# Altium integrated library Altium_Ferrite_Bead.IntLib: 47 symbols
Pins are listed as number, name and electrical type; pins without a type are passive.

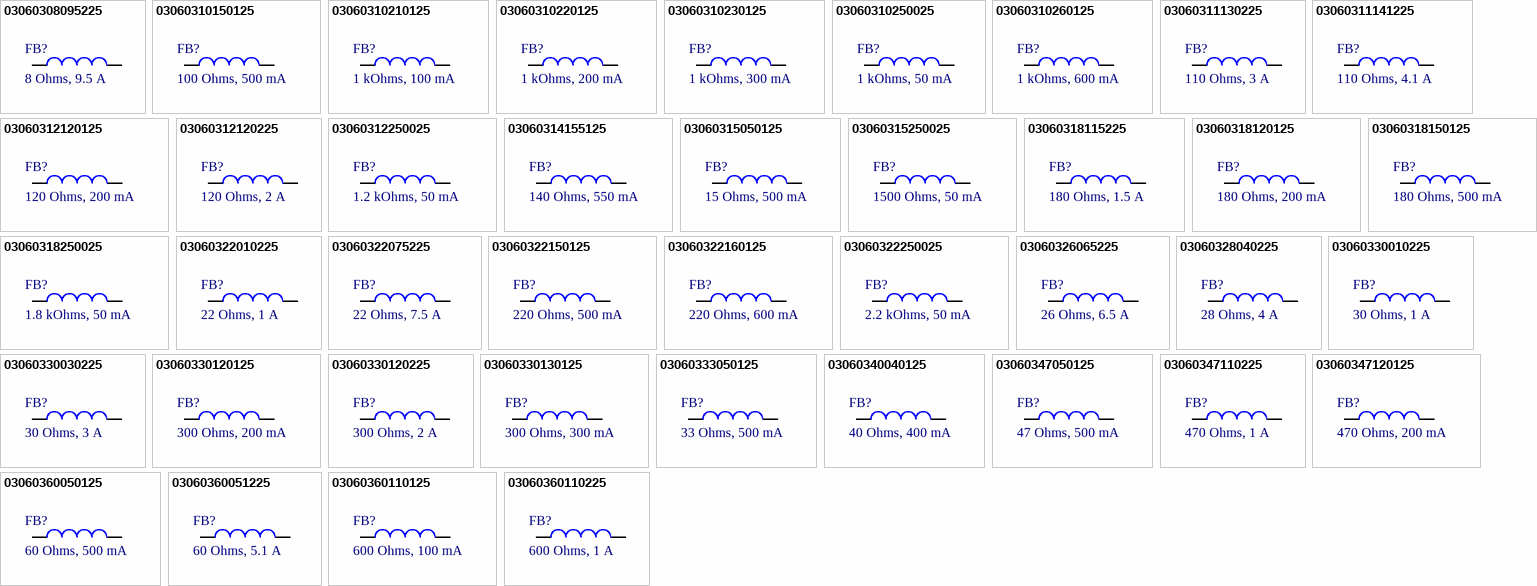
[diagram p0: symbols 03060308095225 to 03060360110225]

## 03060308095225
designator FB?, comment 8 Ohms, 9.5 A
Ferrite, 0603, 8 Ohms, 9.5 A; Manufacturer: Wurth Elektronik; Manufacturer Part Number: 7427922808; Tolerance: +/-25%; Impedance: 8 Ohms; Maximum DC Current: 9.5 A; Maximum DC Resistance: 5 mOhms; Test Frequency: 100 MHz; Packaging: Tape and Reel; Supplier 1 URL: https://www.mouser.com/ProductDetail/Wurth-Elektronik/7427922808?qs=sGAEpiMZZMt1hubY80%2Fs8OaNS%2FJrXGrqNZPZoRKP4ePJAs8SLRl7MQ%3D%3D&utm_source=mouser-refine-download&utm_medium=file&utm_campaign=7427922808&utm_content=Wurth-Elektronik; Supplier 2 URL: N/A; Supplier 3 URL: N/A; Value: 8 Ohms, 9.5 A; ComponentLink1Description: Datasheet; ComponentLink1URL: https://www.we-online.com/catalog/datasheet/7427922808.pdf; Mount: SMD/SMT; Operating Temperature Max: 105°C; Operating Temperature Min: -55°C; Supplier 1: Mouser; Supplier 1 Part Number: 710-7427922808; Supplier 2: Digi-Key; Supplier 2 Part Number: N/A; Supplier 3: thegioiic; Supplier 3 Part Number: N/A; Package / Case: 0603
footprint FER_0603
pins: 1, 2

## 03060310150125
designator FB?, comment 100 Ohms, 500 mA
Ferrite, 0603, 100 Ohms, 500 mA; Manufacturer: Wurth Elektronik; Manufacturer Part Number: 742792620; Tolerance: +/-25%; Maximum DC Current: 500 mA; Maximum DC Resistance: 150 mOhms; Test Frequency: 100 MHz; Packaging: Tape and Reel; Supplier 1 URL: https://www.mouser.com/ProductDetail/Wurth-Elektronik/742792620?qs=sGAEpiMZZMt1hubY80%2Fs8M60rIzA20dgdJ5GOdyN9hc%3D&utm_source=mouser-refine-download&utm_medium=file&utm_campaign=742792620&utm_content=Wurth-Elektronik; Supplier 2 URL: N/A; Supplier 3 URL: N/A; Impedance: 100 Ohms; Value: 100 Ohms, 500 mA; LCSC Part #: C87554; ComponentLink1Description: Datasheet; ComponentLink1URL: https://www.we-online.com/catalog/datasheet/742792620.pdf; Mount: SMD/SMT; Operating Temperature Max: 105°C; Operating Temperature Min: -55°C; Supplier 1: Mouser; Supplier 1 Part Number: 710-742792620; Supplier 2: Digi-Key; Supplier 2 Part Number: N/A; Supplier 3: thegioiic; Supplier 3 Part Number: N/A; Package / Case: 0603
footprint FER_0603
pins: 1, 2

## 03060310210125
designator FB?, comment 1 kOhms, 100 mA
Ferrite, 0603, 1 kOhms, 100 mA; Manufacturer: Wurth Elektronik; Manufacturer Part Number: 742792663; Tolerance: +/-25%; Impedance: 1 kOhms; Maximum DC Current: 100 mA; Maximum DC Resistance: 850 mOhms; Test Frequency: 100 MHz; Packaging: Tape and Reel; Supplier 1 URL: https://www.mouser.com/ProductDetail/Wurth-Elektronik/742792663?qs=sGAEpiMZZMt1hubY80%2Fs8M60rIzA20dgMgzP5rVG4XE%3D&utm_source=mouser-refine-download&utm_medium=file&utm_campaign=742792663&utm_content=Wurth-Elektronik; Supplier 2 URL: N/A; Supplier 3 URL: N/A; Value: 1 kOhms, 100 mA; ComponentLink1Description: Datasheet; ComponentLink1URL: https://www.we-online.com/catalog/datasheet/742792663.pdf; Mount: SMD/SMT; Operating Temperature Max: 105°C; Operating Temperature Min: -55°C; Supplier 1: Mouser; Supplier 1 Part Number: 710-742792663; Supplier 2: Digi-Key; Supplier 2 Part Number: N/A; Supplier 3: thegioiic; Supplier 3 Part Number: N/A; Package / Case: 0603
footprint FER_0603
pins: 1, 2

## 03060310220125
designator FB?, comment 1 kOhms, 200 mA
Ferrite, 0603, 1 kOhms, 200 mA; Manufacturer: Wurth Elektronik; Manufacturer Part Number: 74279266; Tolerance: +/-25%; Impedance: 1 kOhms; Maximum DC Current: 200 mA; Maximum DC Resistance: 600 mOhms; Test Frequency: 100 MHz; Packaging: Tape and Reel; Supplier 1 URL: https://www.mouser.com/ProductDetail/Wurth-Elektronik/74279266?qs=sGAEpiMZZMt1hubY80%2Fs8Fu4ZKI1n7gkrJxgnQpvhF0%3D&utm_source=mouser-refine-download&utm_medium=file&utm_campaign=74279266&utm_content=Wurth-Elektronik; Supplier 2 URL: N/A; Supplier 3 URL: N/A; Value: 1 kOhms, 200 mA; ComponentLink1Description: Datasheet; ComponentLink1URL: https://www.we-online.com/catalog/datasheet/74279266.pdf; Mount: SMD/SMT; Operating Temperature Max: 105°C; Operating Temperature Min: -55°C; Supplier 1: Mouser; Supplier 1 Part Number: 710-74279266; Supplier 2: Digi-Key; Supplier 2 Part Number: N/A; Supplier 3: thegioiic; Supplier 3 Part Number: N/A; Package / Case: 0603
footprint FER_0603
pins: 1, 2

## 03060310230125
designator FB?, comment 1 kOhms, 300 mA
Ferrite, 0603, 1 kOhms, 300 mA; Manufacturer: Wurth Elektronik; Manufacturer Part Number: 742792664; Tolerance: +/-25%; Impedance: 1 kOhms; Maximum DC Current: 300 mA; Maximum DC Resistance: 600 mOhms; Test Frequency: 100 MHz; Packaging: Tape and Reel; Supplier 1 URL: https://www.mouser.com/ProductDetail/Wurth-Elektronik/742792664?qs=sGAEpiMZZMt1hubY80%2Fs8M60rIzA20dg4m5XlO5XQ6U%3D&utm_source=mouser-refine-download&utm_medium=file&utm_campaign=742792664&utm_content=Wurth-Elektronik; Supplier 2 URL: N/A; Supplier 3 URL: N/A; Value: 1 kOhms, 300 mA; ComponentLink1Description: Datasheet; ComponentLink1URL: https://www.we-online.com/catalog/datasheet/742792664.pdf; Mount: SMD/SMT; Operating Temperature Max: 105°C; Operating Temperature Min: -55°C; Supplier 1: Mouser; Supplier 1 Part Number: 710-742792664; Supplier 2: Digi-Key; Supplier 2 Part Number: N/A; Supplier 3: thegioiic; Supplier 3 Part Number: N/A; Package / Case: 0603
footprint FER_0603
pins: 1, 2

## 03060310250025
designator FB?, comment 1 kOhms, 50 mA
Ferrite, 0603, 1 kOhms, 50 mA; Manufacturer: Wurth Elektronik; Manufacturer Part Number: 742861210; Tolerance: +/-25%; Impedance: 1 kOhms; Maximum DC Current: 50 mA; Maximum DC Resistance: 1.8 Ohms; Test Frequency: 100 MHz; Packaging: Tape and Reel; Supplier 1 URL: https://www.mouser.com/ProductDetail/Wurth-Elektronik/742861210?qs=sGAEpiMZZMt1hubY80%2Fs8BKXygOvoDpxiy%252BZQOEKy1o%3D&utm_source=mouser-refine-download&utm_medium=file&utm_campaign=742861210&utm_content=Wurth-Elektronik; Supplier 2 URL: N/A; Supplier 3 URL: N/A; Value: 1 kOhms, 50 mA; ComponentLink1Description: Datasheet; ComponentLink1URL: https://www.we-online.com/catalog/datasheet/742861210.pdf; Mount: SMD/SMT; Operating Temperature Max: 105°C; Operating Temperature Min: -55°C; Supplier 1: Mouser; Supplier 1 Part Number: 710-742861210; Supplier 2: Digi-Key; Supplier 2 Part Number: N/A; Supplier 3: thegioiic; Supplier 3 Part Number: N/A; Package / Case: 0603
footprint FER_0603
pins: 1, 2

## 03060310260125
designator FB?, comment 1 kOhms, 600 mA
Ferrite, 0603, 1 kOhms, 600 mA; Manufacturer: Wurth Elektronik; Manufacturer Part Number: 742792662; Tolerance: +/-25%; Impedance: 1 kOhms; Maximum DC Current: 600 mA; Maximum DC Resistance: 300 mOhms; Test Frequency: 100 MHz; Packaging: Tape and Reel; Supplier 1 URL: https://www.mouser.com/ProductDetail/Wurth-Elektronik/742792662?qs=sGAEpiMZZMt1hubY80%2Fs8OCciRuv%2FFk6rou4i%2FuY0ZJBn7fgNBrBWA%3D%3D&utm_source=mouser-refine-download&utm_medium=file&utm_campaign=742792662&utm_content=Wurth-Elektronik; Supplier 2 URL: N/A; Supplier 3 URL: N/A; Value: 1 kOhms, 600 mA; ComponentLink1Description: Datasheet; ComponentLink1URL: https://www.we-online.com/catalog/datasheet/742792662.pdf; Mount: SMD/SMT; Operating Temperature Max: 105°C; Operating Temperature Min: -55°C; Supplier 1: Mouser; Supplier 1 Part Number: 710-742792662; Supplier 2: Digi-Key; Supplier 2 Part Number: N/A; Supplier 3: thegioiic; Supplier 3 Part Number: N/A; Package / Case: 0603
footprint FER_0603
pins: 1, 2

## 03060311130225
designator FB?, comment 110 Ohms, 3 A
Ferrite, 0603, 110 Ohms, 3 A; Manufacturer: Wurth Elektronik; Manufacturer Part Number: 742792602; Tolerance: +/-25%; Maximum DC Current: 3 A; Maximum DC Resistance: 40 mOhms; Test Frequency: 100 MHz; Packaging: Tape and Reel; Supplier 1 URL: https://www.mouser.com/ProductDetail/Wurth-Elektronik/742792602?qs=sGAEpiMZZMt1hubY80%2Fs8OCciRuv%2FFk648it6jghTQEon3x0ZoNI1Q%3D%3D&utm_source=mouser-refine-download&utm_medium=file&utm_campaign=742792602&utm_content=Wurth-Elektronik; Supplier 2 URL: N/A; Supplier 3 URL: N/A; Impedance: 110 Ohms; Value: 110 Ohms, 3 A; ComponentLink1Description: Datasheet; ComponentLink1URL: https://www.we-online.com/catalog/datasheet/742792602.pdf; Mount: SMD/SMT; Operating Temperature Max: 105°C; Operating Temperature Min: -55°C; Supplier 1: Mouser; Supplier 1 Part Number: 710-742792602; Supplier 2: Digi-Key; Supplier 2 Part Number: N/A; Supplier 3: thegioiic; Supplier 3 Part Number: N/A; Package / Case: 0603
footprint FER_0603
pins: 1, 2

## 03060311141225
designator FB?, comment 110 Ohms, 4.1 A
Ferrite, 0603, 110 Ohms, 4.1 A; Manufacturer: Wurth Elektronik; Manufacturer Part Number: 74279228111; Tolerance: +/-25%; Maximum DC Current: 4.1 A; Maximum DC Resistance: 20 mOhms; Test Frequency: 100 MHz; Packaging: Tape and Reel; Supplier 1 URL: https://www.mouser.com/ProductDetail/Wurth-Elektronik/74279228111?qs=sGAEpiMZZMt1hubY80%2Fs8OaNS%2FJrXGrqoad218ziyVJ2s6IK3enLpg%3D%3D&utm_source=mouser-refine-download&utm_medium=file&utm_campaign=74279228111&utm_content=Wurth-Elektronik; Supplier 2 URL: N/A; Supplier 3 URL: N/A; Impedance: 110 Ohms; Value: 110 Ohms, 4.1 A; ComponentLink1Description: Datasheet; ComponentLink1URL: https://www.we-online.com/catalog/datasheet/74279228111.pdf; Mount: SMD/SMT; Operating Temperature Max: 105°C; Operating Temperature Min: -55°C; Supplier 1: Mouser; Supplier 1 Part Number: 710-74279228111; Supplier 2: Digi-Key; Supplier 2 Part Number: N/A; Supplier 3: thegioiic; Supplier 3 Part Number: N/A; Package / Case: 0603
footprint FER_0603
pins: 1, 2

## 03060312120125
designator FB?, comment 120 Ohms, 200 mA
Ferrite, 0603, 120 Ohms, 200 mA; Manufacturer: Wurth Elektronik; Manufacturer Part Number: 742792606; Tolerance: +/-25%; Maximum DC Current: 200 mA; Maximum DC Resistance: 350 mOhms; Test Frequency: 100 MHz; Packaging: Tape and Reel; Supplier 1 URL: https://www.mouser.com/ProductDetail/Wurth-Elektronik/742792606?qs=sGAEpiMZZMt1hubY80%2Fs8OCciRuv%2FFk6RUmLw%2FAQeyOdy2qzGx3rqg%3D%3D&utm_source=mouser-refine-download&utm_medium=file&utm_campaign=742792606&utm_content=Wurth-Elektronik; Supplier 2 URL: N/A; Supplier 3 URL: N/A; Impedance: 120 Ohms; Value: 120 Ohms, 200 mA; ComponentLink1Description: Datasheet; ComponentLink1URL: https://www.we-online.com/catalog/datasheet/742792606.pdf; Mount: SMD/SMT; Operating Temperature Max: 105°C; Operating Temperature Min: -55°C; Supplier 1: Mouser; Supplier 1 Part Number: 710-742792606; Supplier 2: Digi-Key; Supplier 2 Part Number: N/A; Supplier 3: thegioiic; Supplier 3 Part Number: N/A; Package / Case: 0603
footprint FER_0603
pins: 1, 2

## 03060312120225
designator FB?, comment 120 Ohms, 2 A
Ferrite, 0603, 120 Ohms, 2 A; Manufacturer: Wurth Elektronik; Manufacturer Part Number: 742792625; Tolerance: +/-25%; Maximum DC Current: 2 A; Maximum DC Resistance: 50 mOhms; Test Frequency: 100 MHz; Packaging: Tape and Reel; Supplier 1 URL: https://www.mouser.com/ProductDetail/Wurth-Elektronik/742792625?qs=sGAEpiMZZMt1hubY80%2Fs8OCciRuv%2FFk6PJE4za4cFPDWegNO%252Bf6fVw%3D%3D&utm_source=mouser-refine-download&utm_medium=file&utm_campaign=742792625&utm_content=Wurth-Elektronik; Supplier 2 URL: N/A; Supplier 3 URL: N/A; Impedance: 120 Ohms; Value: 120 Ohms, 2 A; LCSC Part #: C14709; ComponentLink1Description: Datasheet; ComponentLink1URL: https://www.we-online.com/catalog/datasheet/742792625.pdf; Mount: SMD/SMT; Operating Temperature Max: 105°C; Operating Temperature Min: -55°C; Supplier 1: Mouser; Supplier 1 Part Number: 710-742792625; Supplier 2: Digi-Key; Supplier 2 Part Number: N/A; Supplier 3: thegioiic; Supplier 3 Part Number: N/A; Package / Case: 0603
footprint FER_0603
pins: 1, 2

## 03060312250025
designator FB?, comment 1.2 kOhms, 50 mA
Ferrite, 0603, 1.2 kOhms, 50 mA; Manufacturer: Wurth Elektronik; Manufacturer Part Number: 74279269; Tolerance: +/-25%; Maximum DC Current: 50 mA; Maximum DC Resistance: 700 mOhms; Test Frequency: 100 MHz; Packaging: Tape and Reel; Supplier 1 URL: https://www.mouser.com/ProductDetail/Wurth-Elektronik/74279269?qs=sGAEpiMZZMt1hubY80%2Fs8P3D3qB7FPPAEUmn8iBB1ho%3D&utm_source=mouser-refine-download&utm_medium=file&utm_campaign=74279269&utm_content=Wurth-Elektronik; Supplier 2 URL: N/A; Supplier 3 URL: N/A; Impedance: 1.2 kOhms; Value: 1.2 kOhms, 50 mA; ComponentLink1Description: Datasheet; ComponentLink1URL: https://www.we-online.com/catalog/datasheet/74279269.pdf; Mount: SMD/SMT; Operating Temperature Max: 105°C; Operating Temperature Min: -55°C; Supplier 1: Mouser; Supplier 1 Part Number: 710-74279269; Supplier 2: Digi-Key; Supplier 2 Part Number: N/A; Supplier 3: thegioiic; Supplier 3 Part Number: N/A; Package / Case: 0603
footprint FER_0603
pins: 1, 2

## 03060314155125
designator FB?, comment 140 Ohms, 550 mA
Ferrite, 0603, 140 Ohms, 550 mA; Manufacturer: Wurth Elektronik; Manufacturer Part Number: 742792621; Tolerance: +/-25%; Maximum DC Current: 550 mA; Maximum DC Resistance: 200 mOhms; Test Frequency: 100 MHz; Packaging: Tape and Reel; Supplier 1 URL: https://www.mouser.com/ProductDetail/Wurth-Elektronik/742792621?qs=sGAEpiMZZMt1hubY80%2Fs8KwN0d0An6L42v8I79KmX0rIPXAADlEo3A%3D%3D&utm_source=mouser-refine-download&utm_medium=file&utm_campaign=742792621&utm_content=Wurth-Elektronik; Supplier 2 URL: N/A; Supplier 3 URL: N/A; Impedance: 140 Ohms; Value: 140 Ohms, 550 mA; ComponentLink1Description: Datasheet; ComponentLink1URL: https://www.we-online.com/catalog/datasheet/742792621.pdf; Mount: SMD/SMT; Operating Temperature Max: 105°C; Operating Temperature Min: -55°C; Supplier 1: Mouser; Supplier 1 Part Number: 710-742792621; Supplier 2: Digi-Key; Supplier 2 Part Number: N/A; Supplier 3: thegioiic; Supplier 3 Part Number: N/A; Package / Case: 0603
footprint FER_0603
pins: 1, 2

## 03060315050125
designator FB?, comment 15 Ohms, 500 mA
Ferrite, 0603, 15 Ohms, 500 mA; Manufacturer: Wurth Elektronik; Manufacturer Part Number: 74279268; Tolerance: +/-25%; Impedance: 15 Ohms; Maximum DC Current: 500 mA; Maximum DC Resistance: 100 mOhms; Test Frequency: 100 MHz; Packaging: Tape and Reel; Supplier 1 URL: https://www.mouser.com/ProductDetail/Wurth-Elektronik/74279268?qs=sGAEpiMZZMt1hubY80%2Fs8M60rIzA20dg6AqiZmQw0jA%3D&utm_source=mouser-refine-download&utm_medium=file&utm_campaign=74279268&utm_content=Wurth-Elektronik; Supplier 2 URL: N/A; Supplier 3 URL: N/A; Value: 15 Ohms, 500 mA; ComponentLink1Description: Datasheet; ComponentLink1URL: https://www.we-online.com/catalog/datasheet/74279268.pdf; Mount: SMD/SMT; Operating Temperature Max: 105°C; Operating Temperature Min: -55°C; Supplier 1: Mouser; Supplier 1 Part Number: 710-74279268; Supplier 2: Digi-Key; Supplier 2 Part Number: N/A; Supplier 3: thegioiic; Supplier 3 Part Number: N/A; Package / Case: 0603
footprint FER_0603
pins: 1, 2

## 03060315250025
designator FB?, comment 1500 Ohms, 50 mA
Ferrite, 0603, 1500 Ohms, 50 mA; Manufacturer: Wurth Elektronik; Manufacturer Part Number: 742792691; Tolerance: +/-25%; Maximum DC Current: 50 mA; Maximum DC Resistance: 700 mOhms; Test Frequency: 100 MHz; Packaging: Tape and Reel; Supplier 1 URL: https://www.mouser.com/ProductDetail/Wurth-Elektronik/742792691?qs=sGAEpiMZZMt1hubY80%2Fs8M60rIzA20dgxC2eyht%252BmJY%3D&utm_source=mouser-refine-download&utm_medium=file&utm_campaign=742792691&utm_content=Wurth-Elektronik; Supplier 2 URL: N/A; Supplier 3 URL: N/A; Impedance: 1500 Ohms; Value: 1500 Ohms, 50 mA; ComponentLink1Description: Datasheet; ComponentLink1URL: https://www.we-online.com/catalog/datasheet/742792691.pdf; Mount: SMD/SMT; Operating Temperature Max: 105°C; Operating Temperature Min: -55°C; Supplier 1: Mouser; Supplier 1 Part Number: 710-742792691; Supplier 2: Digi-Key; Supplier 2 Part Number: N/A; Supplier 3: thegioiic; Supplier 3 Part Number: N/A; Package / Case: 0603
footprint FER_0603
pins: 1, 2

## 03060318115225
designator FB?, comment 180 Ohms, 1.5 A
Ferrite, 0603, 180 Ohms, 1.5 A; Manufacturer: Wurth Elektronik; Manufacturer Part Number: 742792624; Tolerance: +/-25%; Maximum DC Current: 1.5 A; Maximum DC Resistance: 90 mOhms; Test Frequency: 100 MHz; Packaging: Tape and Reel; Supplier 1 URL: https://www.mouser.com/ProductDetail/Wurth-Elektronik/742792624?qs=sGAEpiMZZMt1hubY80%2Fs8KW3xyk14bZ%252BQN9sGzj%2FyVY%3D&utm_source=mouser-refine-download&utm_medium=file&utm_campaign=742792624&utm_content=Wurth-Elektronik; Supplier 2 URL: N/A; Supplier 3 URL: N/A; Impedance: 180 Ohms; Value: 180 Ohms, 1.5 A; ComponentLink1Description: Datasheet; ComponentLink1URL: https://www.we-online.com/catalog/datasheet/742792624.pdf; Mount: SMD/SMT; Operating Temperature Max: 105°C; Operating Temperature Min: -55°C; Supplier 1: Mouser; Supplier 1 Part Number: 710-742792624; Supplier 2: Digi-Key; Supplier 2 Part Number: N/A; Supplier 3: thegioiic; Supplier 3 Part Number: N/A; Package / Case: 0603
footprint FER_0603
pins: 1, 2

## 03060318120125
designator FB?, comment 180 Ohms, 200 mA
Ferrite, 0603, 180 Ohms, 200 mA; Manufacturer: Wurth Elektronik; Manufacturer Part Number: 742861118; Tolerance: +/-25%; Maximum DC Current: 200 mA; Maximum DC Resistance: 550 mOhms; Test Frequency: 100 MHz; Packaging: Tape and Reel; Supplier 1 URL: https://www.mouser.com/ProductDetail/Wurth-Elektronik/742861118?qs=sGAEpiMZZMt1hubY80%2Fs8BKXygOvoDpxw0owDBNz%252BZQ%3D&utm_source=mouser-refine-download&utm_medium=file&utm_campaign=742861118&utm_content=Wurth-Elektronik; Supplier 2 URL: N/A; Supplier 3 URL: N/A; Impedance: 180 Ohms; Value: 180 Ohms, 200 mA; ComponentLink1Description: Datasheet; ComponentLink1URL: https://www.we-online.com/catalog/datasheet/742861118.pdf; Mount: SMD/SMT; Operating Temperature Max: 105°C; Operating Temperature Min: -55°C; Supplier 1: Mouser; Supplier 1 Part Number: 710-742861118; Supplier 2: Digi-Key; Supplier 2 Part Number: N/A; Supplier 3: thegioiic; Supplier 3 Part Number: N/A; Package / Case: 0603
footprint FER_0603
pins: 1, 2

## 03060318150125
designator FB?, comment 180 Ohms, 500 mA
Ferrite, 0603, 180 Ohms, 500 mA; Manufacturer: Wurth Elektronik; Manufacturer Part Number: 742792622; Tolerance: +/-25%; Maximum DC Current: 500 mA; Maximum DC Resistance: 300 mOhms; Test Frequency: 100 MHz; Packaging: Tape and Reel; Supplier 1 URL: https://www.mouser.com/ProductDetail/Wurth-Elektronik/742792622?qs=sGAEpiMZZMt1hubY80%2Fs8M60rIzA20dg13sruIZuJoQ%3D&utm_source=mouser-refine-download&utm_medium=file&utm_campaign=742792622&utm_content=Wurth-Elektronik; Supplier 2 URL: N/A; Supplier 3 URL: N/A; Impedance: 180 Ohms; Value: 180 Ohms, 500 mA; ComponentLink1Description: Datasheet; ComponentLink1URL: https://www.we-online.com/catalog/datasheet/742792622.pdf; Mount: SMD/SMT; Operating Temperature Max: 105°C; Operating Temperature Min: -55°C; Supplier 1: Mouser; Supplier 1 Part Number: 710-742792622; Supplier 2: Digi-Key; Supplier 2 Part Number: N/A; Supplier 3: thegioiic; Supplier 3 Part Number: N/A; Package / Case: 0603
footprint FER_0603
pins: 1, 2

## 03060318250025
designator FB?, comment 1.8 kOhms, 50 mA
Ferrite, 0603, 1.8 kOhms, 50 mA; Manufacturer: Wurth Elektronik; Manufacturer Part Number: 742792692; Tolerance: +/-25%; Maximum DC Current: 50 mA; Maximum DC Resistance: 800 mOhms; Test Frequency: 100 MHz; Packaging: Tape and Reel; Supplier 1 URL: https://www.mouser.com/ProductDetail/Wurth-Elektronik/742792692?qs=sGAEpiMZZMt1hubY80%2Fs8KwN0d0An6L4tqJpjNOSVU5hwSWm36ifbQ%3D%3D&utm_source=mouser-refine-download&utm_medium=file&utm_campaign=742792692&utm_content=Wurth-Elektronik; Supplier 2 URL: N/A; Supplier 3 URL: N/A; Impedance: 1.8 kOhms; Value: 1.8 kOhms, 50 mA; ComponentLink1Description: Datasheet; ComponentLink1URL: https://www.we-online.com/catalog/datasheet/742792692.pdf; Mount: SMD/SMT; Operating Temperature Max: 105°C; Operating Temperature Min: -55°C; Supplier 1: Mouser; Supplier 1 Part Number: 710-742792692; Supplier 2: Digi-Key; Supplier 2 Part Number: N/A; Supplier 3: thegioiic; Supplier 3 Part Number: N/A; Package / Case: 0603
footprint FER_0603
pins: 1, 2

## 03060322010225
designator FB?, comment 22 Ohms, 1 A
Ferrite, 0603, 22 Ohms, 1 A; Manufacturer: Wurth Elektronik; Manufacturer Part Number: 742792604; Tolerance: +/-25%; Impedance: 22 Ohms; Maximum DC Current: 1 A; Maximum DC Resistance: 50 mOhms; Test Frequency: 100 MHz; Packaging: Tape and Reel; Supplier 1 URL: https://www.mouser.com/ProductDetail/Wurth-Elektronik/742792604?qs=sGAEpiMZZMt1hubY80%2Fs8M60rIzA20dgtfLCds%252Bmth4%3D&utm_source=mouser-refine-download&utm_medium=file&utm_campaign=742792604&utm_content=Wurth-Elektronik; Supplier 2 URL: N/A; Supplier 3 URL: N/A; Value: 22 Ohms, 1 A; ComponentLink1Description: Datasheet; ComponentLink1URL: https://www.we-online.com/catalog/datasheet/742792604.pdf; Mount: SMD/SMT; Operating Temperature Max: 105°C; Operating Temperature Min: -55°C; Supplier 1: Mouser; Supplier 1 Part Number: 710-742792604; Supplier 2: Digi-Key; Supplier 2 Part Number: N/A; Supplier 3: thegioiic; Supplier 3 Part Number: N/A; Package / Case: 0603
footprint FER_0603
pins: 1, 2

## 03060322075225
designator FB?, comment 22 Ohms, 7.5 A
Ferrite, 0603, 22 Ohms, 7.5 A; Manufacturer: Wurth Elektronik; Manufacturer Part Number: 7426926222; Tolerance: +/-25%; Impedance: 22 Ohms; Maximum DC Current: 7.5 A; Maximum DC Resistance: 4 mOhms; Test Frequency: 100 MHz; Packaging: Tape and Reel; Supplier 1 URL: https://www.mouser.com/ProductDetail/Wurth-Elektronik/7426926222?qs=sGAEpiMZZMt1hubY80%2Fs8KH3ycnB7WcGG7ZS4H6r63MFByHfe5apPg%3D%3D&utm_source=mouser-refine-download&utm_medium=file&utm_campaign=7426926222&utm_content=Wurth-Elektronik; Supplier 2 URL: N/A; Supplier 3 URL: N/A; Value: 22 Ohms, 7.5 A; ComponentLink1Description: Datasheet; ComponentLink1URL: https://www.we-online.com/catalog/datasheet/7426926222.pdf; Mount: SMD/SMT; Operating Temperature Max: 105°C; Operating Temperature Min: -55°C; Supplier 1: Mouser; Supplier 1 Part Number: 710-7426926222; Supplier 2: Digi-Key; Supplier 2 Part Number: N/A; Supplier 3: thegioiic; Supplier 3 Part Number: N/A; Package / Case: 0603
footprint FER_0603
pins: 1, 2

## 03060322150125
designator FB?, comment 220 Ohms, 500 mA
Ferrite, 0603, 220 Ohms, 500 mA; Manufacturer: Wurth Elektronik; Manufacturer Part Number: 74279263; Tolerance: +/-25%; Maximum DC Current: 500 mA; Maximum DC Resistance: 300 mOhms; Test Frequency: 100 MHz; Packaging: Tape and Reel; Supplier 1 URL: https://www.mouser.com/ProductDetail/Wurth-Elektronik/74279263?qs=sGAEpiMZZMt1hubY80%2Fs8M60rIzA20dgYGmcPLz215w%3D&utm_source=mouser-refine-download&utm_medium=file&utm_campaign=74279263&utm_content=Wurth-Elektronik; Supplier 2 URL: N/A; Supplier 3 URL: N/A; Impedance: 220 Ohms; Value: 220 Ohms, 500 mA; ComponentLink1Description: Datasheet; ComponentLink1URL: https://www.we-online.com/catalog/datasheet/74279263.pdf; Mount: SMD/SMT; Operating Temperature Max: 105°C; Operating Temperature Min: -55°C; Supplier 1: Mouser; Supplier 1 Part Number: 710-74279263; Supplier 2: Digi-Key; Supplier 2 Part Number: N/A; Supplier 3: thegioiic; Supplier 3 Part Number: N/A; Package / Case: 0603
footprint FER_0603
pins: 1, 2

## 03060322160125
designator FB?, comment 220 Ohms, 600 mA
Ferrite, 0603, 220 Ohms, 600 mA; Manufacturer: Wurth Elektronik; Manufacturer Part Number: 742863122; Tolerance: +/-25%; Maximum DC Current: 600 mA; Maximum DC Resistance: 250 mOhms; Test Frequency: 100 MHz; Packaging: Tape and Reel; Supplier 1 URL: https://www.mouser.com/ProductDetail/Wurth-Elektronik/742863122?qs=sGAEpiMZZMt1hubY80%2Fs8BKXygOvoDpxHwQ0yE6y6s8%3D&utm_source=mouser-refine-download&utm_medium=file&utm_campaign=742863122&utm_content=Wurth-Elektronik; Supplier 2 URL: N/A; Supplier 3 URL: N/A; Impedance: 220 Ohms; Value: 220 Ohms, 600 mA; ComponentLink1Description: Datasheet; ComponentLink1URL: https://www.we-online.com/catalog/datasheet/742863122.pdf; Mount: SMD/SMT; Operating Temperature Max: 105°C; Operating Temperature Min: -55°C; Supplier 1: Mouser; Supplier 1 Part Number: 710-742863122; Supplier 2: Digi-Key; Supplier 2 Part Number: N/A; Supplier 3: thegioiic; Supplier 3 Part Number: N/A; Package / Case: 0603
footprint FER_0603
pins: 1, 2

## 03060322250025
designator FB?, comment 2.2 kOhms, 50 mA
Ferrite, 0603, 2.2 kOhms, 50 mA; Manufacturer: Wurth Elektronik; Manufacturer Part Number: 742792693; Tolerance: +/-25%; Maximum DC Current: 50 mA; Maximum DC Resistance: 800 mOhms; Test Frequency: 100 MHz; Packaging: Tape and Reel; Supplier 1 URL: https://www.mouser.com/ProductDetail/Wurth-Elektronik/742792693?qs=sGAEpiMZZMt1hubY80%2Fs8M60rIzA20dghDXIWj653Dk%3D&utm_source=mouser-refine-download&utm_medium=file&utm_campaign=742792693&utm_content=Wurth-Elektronik; Supplier 2 URL: N/A; Supplier 3 URL: N/A; Impedance: 2.2 kOhms; Value: 2.2 kOhms, 50 mA; ComponentLink1Description: Datasheet; ComponentLink1URL: https://www.we-online.com/catalog/datasheet/742792693.pdf; Mount: SMD/SMT; Operating Temperature Max: 105°C; Operating Temperature Min: -55°C; Supplier 1: Mouser; Supplier 1 Part Number: 710-742792693; Supplier 2: Digi-Key; Supplier 2 Part Number: N/A; Supplier 3: thegioiic; Supplier 3 Part Number: N/A; Package / Case: 0603
footprint FER_0603
pins: 1, 2

## 03060326065225
designator FB?, comment 26 Ohms, 6.5 A
Ferrite, 0603, 26 Ohms, 6.5 A; Manufacturer: Wurth Elektronik; Manufacturer Part Number: 74279228260; Tolerance: +/-25%; Impedance: 26 Ohms; Maximum DC Current: 6.5 A; Maximum DC Resistance: 8 mOhms; Test Frequency: 100 MHz; Packaging: Tape and Reel; Supplier 1 URL: https://www.mouser.com/ProductDetail/Wurth-Elektronik/74279228260?qs=sGAEpiMZZMt1hubY80%2Fs8OaNS%2FJrXGrqh%2FbVLSOC%2FIMC%252B8ogZW77pA%3D%3D&utm_source=mouser-refine-download&utm_medium=file&utm_campaign=74279228260&utm_content=Wurth-Elektronik; Supplier 2 URL: N/A; Supplier 3 URL: N/A; Value: 26 Ohms, 6.5 A; ComponentLink1Description: Datasheet; ComponentLink1URL: https://www.we-online.com/catalog/datasheet/74279228260.pdf; Mount: SMD/SMT; Operating Temperature Max: 105°C; Operating Temperature Min: -55°C; Supplier 1: Mouser; Supplier 1 Part Number: 710-74279228260; Supplier 2: Digi-Key; Supplier 2 Part Number: N/A; Supplier 3: thegioiic; Supplier 3 Part Number: N/A; Package / Case: 0603
footprint FER_0603
pins: 1, 2

## 03060328040225
designator FB?, comment 28 Ohms, 4 A
Ferrite, 0603, 28 Ohms, 4 A; Manufacturer: Wurth Elektronik; Manufacturer Part Number: 742792603; Tolerance: +/-25%; Impedance: 28 Ohms; Maximum DC Current: 4 A; Maximum DC Resistance: 30 mOhms; Test Frequency: 100 MHz; Packaging: Tape and Reel; Supplier 1 URL: https://www.mouser.com/ProductDetail/Wurth-Elektronik/742792603?qs=sGAEpiMZZMt1hubY80%2Fs8M60rIzA20dgxKuokkXBk4s%3D&utm_source=mouser-refine-download&utm_medium=file&utm_campaign=742792603&utm_content=Wurth-Elektronik; Supplier 2 URL: N/A; Supplier 3 URL: N/A; Value: 28 Ohms, 4 A; ComponentLink1Description: Datasheet; ComponentLink1URL: https://www.we-online.com/catalog/datasheet/742792603.pdf; Mount: SMD/SMT; Operating Temperature Max: 105°C; Operating Temperature Min: -55°C; Supplier 1: Mouser; Supplier 1 Part Number: 710-742792603; Supplier 2: Digi-Key; Supplier 2 Part Number: N/A; Supplier 3: thegioiic; Supplier 3 Part Number: N/A; Package / Case: 0603
footprint FER_0603
pins: 1, 2

## 03060330010225
designator FB?, comment 30 Ohms, 1 A
Ferrite, 0603, 30 Ohms, 1 A; Manufacturer: Wurth Elektronik; Manufacturer Part Number: 742792601; Tolerance: +/-25%; Impedance: 30 Ohms; Maximum DC Current: 1 A; Maximum DC Resistance: 30 mOhms; Test Frequency: 100 MHz; Packaging: Tape and Reel; Supplier 1 URL: https://www.mouser.com/ProductDetail/Wurth-Elektronik/742792601?qs=sGAEpiMZZMt1hubY80%2Fs8KwN0d0An6L4%252BcMo24yuoPAxUIJtOss2WQ%3D%3D&utm_source=mouser-refine-download&utm_medium=file&utm_campaign=742792601&utm_content=Wurth-Elektronik; Supplier 2 URL: N/A; Supplier 3 URL: N/A; Value: 30 Ohms, 1 A; ComponentLink1Description: Datasheet; ComponentLink1URL: https://www.we-online.com/catalog/datasheet/742792601.pdf; Mount: SMD/SMT; Operating Temperature Max: 105°C; Operating Temperature Min: -55°C; Supplier 1: Mouser; Supplier 1 Part Number: 710-742792601; Supplier 2: Digi-Key; Supplier 2 Part Number: N/A; Supplier 3: thegioiic; Supplier 3 Part Number: N/A; Package / Case: 0603
footprint FER_0603
pins: 1, 2

## 03060330030225
designator FB?, comment 30 Ohms, 3 A
Ferrite, 0603, 30 Ohms, 3 A; Manufacturer: Wurth Elektronik; Manufacturer Part Number: 742792609; Tolerance: +/-25%; Impedance: 30 Ohms; Maximum DC Current: 3 A; Maximum DC Resistance: 40 mOhms; Test Frequency: 100 MHz; Packaging: Tape and Reel; Supplier 1 URL: https://www.mouser.com/ProductDetail/Wurth-Elektronik/742792609?qs=sGAEpiMZZMt1hubY80%2Fs8M60rIzA20dgnJJ5wFH9ijM%3D&utm_source=mouser-refine-download&utm_medium=file&utm_campaign=742792609&utm_content=Wurth-Elektronik; Supplier 2 URL: N/A; Supplier 3 URL: N/A; Value: 30 Ohms, 3 A; ComponentLink1Description: Datasheet; ComponentLink1URL: https://www.we-online.com/catalog/datasheet/742792609.pdf; Mount: SMD/SMT; Operating Temperature Max: 105°C; Operating Temperature Min: -55°C; Supplier 1: Mouser; Supplier 1 Part Number: 710-742792609; Supplier 2: Digi-Key; Supplier 2 Part Number: N/A; Supplier 3: thegioiic; Supplier 3 Part Number: N/A; Package / Case: 0603
footprint FER_0603
pins: 1, 2

## 03060330120125
designator FB?, comment 300 Ohms, 200 mA
Ferrite, 0603, 300 Ohms, 200 mA; Manufacturer: Wurth Elektronik; Manufacturer Part Number: 74279264; Tolerance: +/-25%; Maximum DC Current: 200 mA; Maximum DC Resistance: 350 mOhms; Test Frequency: 100 MHz; Packaging: Tape and Reel; Supplier 1 URL: https://www.mouser.com/ProductDetail/Wurth-Elektronik/74279264?qs=sGAEpiMZZMt1hubY80%2Fs8P3D3qB7FPPATcVd6dXduJ0%3D&utm_source=mouser-refine-download&utm_medium=file&utm_campaign=74279264&utm_content=Wurth-Elektronik; Supplier 2 URL: N/A; Supplier 3 URL: N/A; Impedance: 300 Ohms; Value: 300 Ohms, 200 mA; ComponentLink1Description: Datasheet; ComponentLink1URL: https://www.we-online.com/catalog/datasheet/74279264.pdf; Mount: SMD/SMT; Operating Temperature Max: 105°C; Operating Temperature Min: -55°C; Supplier 1: Mouser; Supplier 1 Part Number: 710-74279264; Supplier 2: Digi-Key; Supplier 2 Part Number: N/A; Supplier 3: thegioiic; Supplier 3 Part Number: N/A; Package / Case: 0603
footprint FER_0603
pins: 1, 2

## 03060330120225
designator FB?, comment 300 Ohms, 2 A
Ferrite, 0603, 300 Ohms, 2 A; Manufacturer: Wurth Elektronik; Manufacturer Part Number: 742792641; Tolerance: +/-25%; Maximum DC Current: 2 A; Maximum DC Resistance: 150 mOhms; Test Frequency: 100 MHz; Packaging: Tape and Reel; Supplier 1 URL: https://www.mouser.com/ProductDetail/Wurth-Elektronik/742792641?qs=sGAEpiMZZMt1hubY80%2Fs8M60rIzA20dgYN7rbMSR2hQ%3D&utm_source=mouser-refine-download&utm_medium=file&utm_campaign=742792641&utm_content=Wurth-Elektronik; Supplier 2 URL: N/A; Supplier 3 URL: N/A; Impedance: 300 Ohms; Value: 300 Ohms, 2 A; ComponentLink1Description: Datasheet; ComponentLink1URL: https://www.we-online.com/catalog/datasheet/742792641.pdf; Mount: SMD/SMT; Operating Temperature Max: 105°C; Operating Temperature Min: -55°C; Supplier 1: Mouser; Supplier 1 Part Number: 710-742792641; Supplier 2: Digi-Key; Supplier 2 Part Number: N/A; Supplier 3: thegioiic; Supplier 3 Part Number: N/A; Package / Case: 0603
footprint FER_0603
pins: 1, 2

## 03060330130125
designator FB?, comment 300 Ohms, 300 mA
Ferrite, 0603, 300 Ohms, 300 mA; Manufacturer: Wurth Elektronik; Manufacturer Part Number: 742792640; Tolerance: +/-25%; Maximum DC Current: 300 mA; Maximum DC Resistance: 350 mOhms; Test Frequency: 100 MHz; Packaging: Tape and Reel; Supplier 1 URL: https://www.mouser.com/ProductDetail/Wurth-Elektronik/742792640?qs=sGAEpiMZZMt1hubY80%2Fs8M60rIzA20dgwH2qXZ%252BJK6U%3D&utm_source=mouser-refine-download&utm_medium=file&utm_campaign=742792640&utm_content=Wurth-Elektronik; Supplier 2 URL: N/A; Supplier 3 URL: N/A; Impedance: 300 Ohms; Value: 300 Ohms, 300 mA; ComponentLink1Description: Datasheet; ComponentLink1URL: https://www.we-online.com/catalog/datasheet/742792640.pdf; Mount: SMD/SMT; Operating Temperature Max: 105°C; Operating Temperature Min: -55°C; Supplier 1: Mouser; Supplier 1 Part Number: 710-742792640; Supplier 2: Digi-Key; Supplier 2 Part Number: N/A; Supplier 3: thegioiic; Supplier 3 Part Number: N/A; Package / Case: 0603
footprint FER_0603
pins: 1, 2

## 03060333050125
designator FB?, comment 33 Ohms, 500 mA
Ferrite, 0603, 33 Ohms, 500 mA; Manufacturer: Wurth Elektronik; Manufacturer Part Number: 742792605; Tolerance: +/-25%; Impedance: 33 Ohms; Maximum DC Current: 500 mA; Maximum DC Resistance: 100 mOhms; Test Frequency: 100 MHz; Packaging: Tape and Reel; Supplier 1 URL: https://www.mouser.com/ProductDetail/Wurth-Elektronik/742792605?qs=sGAEpiMZZMt1hubY80%2Fs8KwN0d0An6L4skBASskyGszj5FfZcR5gNQ%3D%3D&utm_source=mouser-refine-download&utm_medium=file&utm_campaign=742792605&utm_content=Wurth-Elektronik; Supplier 2 URL: N/A; Supplier 3 URL: N/A; Value: 33 Ohms, 500 mA; ComponentLink1Description: Datasheet; ComponentLink1URL: https://www.we-online.com/catalog/datasheet/742792605.pdf; Mount: SMD/SMT; Operating Temperature Max: 105°C; Operating Temperature Min: -55°C; Supplier 1: Mouser; Supplier 1 Part Number: 710-742792605; Supplier 2: Digi-Key; Supplier 2 Part Number: N/A; Supplier 3: thegioiic; Supplier 3 Part Number: N/A; Package / Case: 0603
footprint FER_0603
pins: 1, 2

## 03060340040125
designator FB?, comment 40 Ohms, 400 mA
Ferrite, 0603, 40 Ohms, 400 mA; Manufacturer: Wurth Elektronik; Manufacturer Part Number: 74279260; Tolerance: +/-25%; Impedance: 40 Ohms; Maximum DC Current: 400 mA; Maximum DC Resistance: 150 mOhms; Test Frequency: 100 MHz; Packaging: Tape and Reel; Supplier 1 URL: https://www.mouser.com/ProductDetail/Wurth-Elektronik/74279260?qs=sGAEpiMZZMt1hubY80%2Fs8M60rIzA20dgRJGP0wB8Cag%3D&utm_source=mouser-refine-download&utm_medium=file&utm_campaign=74279260&utm_content=Wurth-Elektronik; Supplier 2 URL: N/A; Supplier 3 URL: N/A; Value: 40 Ohms, 400 mA; ComponentLink1Description: Datasheet; ComponentLink1URL: https://www.we-online.com/catalog/datasheet/74279260.pdf; Mount: SMD/SMT; Operating Temperature Max: 105°C; Operating Temperature Min: -55°C; Supplier 1: Mouser; Supplier 1 Part Number: 710-74279260; Supplier 2: Digi-Key; Supplier 2 Part Number: N/A; Supplier 3: thegioiic; Supplier 3 Part Number: N/A; Package / Case: 0603
footprint FER_0603
pins: 1, 2

## 03060347050125
designator FB?, comment 47 Ohms, 500 mA
Ferrite, 0603, 47 Ohms, 500 mA; Manufacturer: Wurth Elektronik; Manufacturer Part Number: 742792608; Tolerance: +/-25%; Impedance: 47 Ohms; Maximum DC Current: 500 mA; Maximum DC Resistance: 100 mOhms; Test Frequency: 100 MHz; Packaging: Tape and Reel; Supplier 1 URL: https://www.mouser.com/ProductDetail/Wurth-Elektronik/742792608?qs=sGAEpiMZZMt1hubY80%2Fs8M60rIzA20dgK6hcyLMc61A%3D&utm_source=mouser-refine-download&utm_medium=file&utm_campaign=742792608&utm_content=Wurth-Elektronik; Supplier 2 URL: N/A; Supplier 3 URL: N/A; Value: 47 Ohms, 500 mA; ComponentLink1Description: Datasheet; ComponentLink1URL: https://www.we-online.com/catalog/datasheet/742792608.pdf; Mount: SMD/SMT; Operating Temperature Max: 105°C; Operating Temperature Min: -55°C; Supplier 1: Mouser; Supplier 1 Part Number: 710-742792608; Supplier 2: Digi-Key; Supplier 2 Part Number: N/A; Supplier 3: thegioiic; Supplier 3 Part Number: N/A; Package / Case: 0603
footprint FER_0603
pins: 1, 2

## 03060347110225
designator FB?, comment 470 Ohms, 1 A
Ferrite, 0603, 470 Ohms, 1 A; Manufacturer: Wurth Elektronik; Manufacturer Part Number: 742792645; Tolerance: +/-25%; Maximum DC Current: 1 A; Maximum DC Resistance: 200 mOhms; Test Frequency: 100 MHz; Packaging: Tape and Reel; Supplier 1 URL: https://www.mouser.com/ProductDetail/Wurth-Elektronik/742792645?qs=sGAEpiMZZMt1hubY80%2Fs8OCciRuv%2FFk67brpWlt1OxUswsnsSqq%252BNw%3D%3D&utm_source=mouser-refine-download&utm_medium=file&utm_campaign=742792645&utm_content=Wurth-Elektronik; Supplier 2 URL: N/A; Supplier 3 URL: N/A; Impedance: 470 Ohms; Value: 470 Ohms, 1 A; ComponentLink1Description: Datasheet; ComponentLink1URL: https://www.we-online.com/catalog/datasheet/742792645.pdf; Mount: SMD/SMT; Operating Temperature Max: 105°C; Operating Temperature Min: -55°C; Supplier 1: Mouser; Supplier 1 Part Number: 710-742792645; Supplier 2: Digi-Key; Supplier 2 Part Number: N/A; Supplier 3: thegioiic; Supplier 3 Part Number: N/A; Package / Case: 0603
footprint FER_0603
pins: 1, 2

## 03060347120125
designator FB?, comment 470 Ohms, 200 mA
Ferrite, 0603, 470 Ohms, 200 mA; Manufacturer: Wurth Elektronik; Manufacturer Part Number: 742792642; Tolerance: +/-25%; Maximum DC Current: 200 mA; Maximum DC Resistance: 450 mOhms; Test Frequency: 100 MHz; Packaging: Tape and Reel; Supplier 1 URL: https://www.mouser.com/ProductDetail/Wurth-Elektronik/742792642?qs=sGAEpiMZZMt1hubY80%2Fs8M60rIzA20dgcFEsRi1sRuk%3D&utm_source=mouser-refine-download&utm_medium=file&utm_campaign=742792642&utm_content=Wurth-Elektronik; Supplier 2 URL: N/A; Supplier 3 URL: N/A; Impedance: 470 Ohms; Value: 470 Ohms, 200 mA; ComponentLink1Description: Datasheet; ComponentLink1URL: https://www.we-online.com/catalog/datasheet/742792642.pdf; Mount: SMD/SMT; Operating Temperature Max: 105°C; Operating Temperature Min: -55°C; Supplier 1: Mouser; Supplier 1 Part Number: 710-742792642; Supplier 2: Digi-Key; Supplier 2 Part Number: N/A; Supplier 3: thegioiic; Supplier 3 Part Number: N/A; Package / Case: 0603
footprint FER_0603
pins: 1, 2

## 03060360050125
designator FB?, comment 60 Ohms, 500 mA
Ferrite, 0603, 60 Ohms, 500 mA; Manufacturer: Wurth Elektronik; Manufacturer Part Number: 74279267; Tolerance: +/-25%; Impedance: 60 Ohms; Maximum DC Current: 500 mA; Maximum DC Resistance: 300 mOhms; Test Frequency: 100 MHz; Packaging: Tape and Reel; Supplier 1 URL: https://www.mouser.com/ProductDetail/Wurth-Elektronik/74279267?qs=sGAEpiMZZMt1hubY80%2Fs8M60rIzA20dgnpkAczMD5Kg%3D&utm_source=mouser-refine-download&utm_medium=file&utm_campaign=74279267&utm_content=Wurth-Elektronik; Supplier 2 URL: N/A; Supplier 3 URL: N/A; Value: 60 Ohms, 500 mA; ComponentLink1Description: Datasheet; ComponentLink1URL: https://www.we-online.com/catalog/datasheet/74279267.pdf; Mount: SMD/SMT; Operating Temperature Max: 105°C; Operating Temperature Min: -55°C; Supplier 1: Mouser; Supplier 1 Part Number: 710-74279267; Supplier 2: Digi-Key; Supplier 2 Part Number: N/A; Supplier 3: thegioiic; Supplier 3 Part Number: N/A; Package / Case: 0603
footprint FER_0603
pins: 1, 2

## 03060360051225
designator FB?, comment 60 Ohms, 5.1 A
Ferrite, 0603, 60 Ohms, 5.1 A; Manufacturer: Wurth Elektronik; Manufacturer Part Number: 74279228600; Tolerance: +/-25%; Impedance: 60 Ohms; Maximum DC Current: 5.1 A; Maximum DC Resistance: 15 mOhms; Test Frequency: 100 MHz; Packaging: Tape and Reel; Supplier 1 URL: https://www.mouser.com/ProductDetail/Wurth-Elektronik/74279228600?qs=sGAEpiMZZMt1hubY80%2Fs8OaNS%2FJrXGrqQHN1vbCrUiJ8GjGendVmOw%3D%3D&utm_source=mouser-refine-download&utm_medium=file&utm_campaign=74279228600&utm_content=Wurth-Elektronik; Supplier 2 URL: N/A; Supplier 3 URL: N/A; Value: 60 Ohms, 5.1 A; ComponentLink1Description: Datasheet; ComponentLink1URL: https://www.we-online.com/catalog/datasheet/74279228600.pdf; Mount: SMD/SMT; Operating Temperature Max: 105°C; Operating Temperature Min: -55°C; Supplier 1: Mouser; Supplier 1 Part Number: 710-74279228600; Supplier 2: Digi-Key; Supplier 2 Part Number: N/A; Supplier 3: thegioiic; Supplier 3 Part Number: N/A; Package / Case: 0603
footprint FER_0603
pins: 1, 2

## 03060360110125
designator FB?, comment 600 Ohms, 100 mA
Ferrite, 0603, 600 Ohms, 100 mA; Manufacturer: Wurth Elektronik; Manufacturer Part Number: 742862160; Tolerance: +/-25%; Maximum DC Current: 100 mA; Maximum DC Resistance: 1.5 Ohms; Test Frequency: 100 MHz; Packaging: Tape and Reel; Supplier 1 URL: https://www.mouser.com/ProductDetail/Wurth-Elektronik/742862160?qs=sGAEpiMZZMt1hubY80%2Fs8BKXygOvoDpxnxouQAI1csM%3D&utm_source=mouser-refine-download&utm_medium=file&utm_campaign=742862160&utm_content=Wurth-Elektronik; Supplier 2 URL: N/A; Supplier 3 URL: N/A; Impedance: 600 Ohms; Value: 600 Ohms, 100 mA; ComponentLink1Description: Datasheet; ComponentLink1URL: https://www.we-online.com/catalog/datasheet/742862160.pdf; Mount: SMD/SMT; Operating Temperature Max: 105°C; Operating Temperature Min: -55°C; Supplier 1: Mouser; Supplier 1 Part Number: 710-742862160; Supplier 2: Digi-Key; Supplier 2 Part Number: N/A; Supplier 3: thegioiic; Supplier 3 Part Number: N/A; Package / Case: 0603
footprint FER_0603
pins: 1, 2

## 03060360110225
designator FB?, comment 600 Ohms, 1 A
Ferrite, 0603, 600 Ohms, 1 A; Manufacturer: Wurth Elektronik; Manufacturer Part Number: 742792651; Tolerance: +/-25%; Maximum DC Current: 1 A; Maximum DC Resistance: 200 mOhms; Test Frequency: 100 MHz; Packaging: Tape and Reel; Supplier 1 URL: https://www.mouser.com/ProductDetail/Wurth-Elektronik/742792651?qs=sGAEpiMZZMt1hubY80%2Fs8M60rIzA20dgTaAssd1%2FEf4%3D&utm_source=mouser-refine-download&utm_medium=file&utm_campaign=742792651&utm_content=Wurth-Elektronik; Supplier 2 URL: N/A; Supplier 3 URL: N/A; Impedance: 600 Ohms; Value: 600 Ohms, 1 A; ComponentLink1Description: Datasheet; ComponentLink1URL: https://www.we-online.com/catalog/datasheet/742792651.pdf; Mount: SMD/SMT; Operating Temperature Max: 105°C; Operating Temperature Min: -55°C; Supplier 1: Mouser; Supplier 1 Part Number: 710-742792651; Supplier 2: Digi-Key; Supplier 2 Part Number: N/A; Supplier 3: thegioiic; Supplier 3 Part Number: N/A; Package / Case: 0603
footprint FER_0603
pins: 1, 2

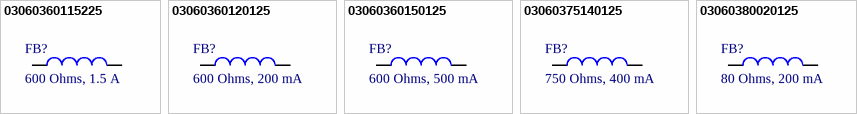
[diagram p1: symbols 03060360115225 to 03060380020125]

## 03060360115225
designator FB?, comment 600 Ohms, 1.5 A
Ferrite, 0603, 600 Ohms, 1.5 A; Manufacturer: Wurth Elektronik; Manufacturer Part Number: 74269262601; Tolerance: +/-25%; Maximum DC Current: 1.5 A; Maximum DC Resistance: 100 mOhms; Test Frequency: 100 MHz; Packaging: Tape and Reel; Supplier 1 URL: https://www.mouser.com/ProductDetail/Wurth-Elektronik/74269262601?qs=sGAEpiMZZMt1hubY80%2Fs8KH3ycnB7WcGNvTh%2FvzBfucx4a33zVbGsw%3D%3D&utm_source=mouser-refine-download&utm_medium=file&utm_campaign=74269262601&utm_content=Wurth-Elektronik; Supplier 2 URL: N/A; Supplier 3 URL: N/A; Impedance: 600 Ohms; Value: 600 Ohms, 1.5 A; ComponentLink1Description: Datasheet; ComponentLink1URL: https://www.we-online.com/catalog/datasheet/74269262601.pdf; Mount: SMD/SMT; Operating Temperature Max: 105°C; Operating Temperature Min: -55°C; Supplier 1: Mouser; Supplier 1 Part Number: 710-74269262601; Supplier 2: Digi-Key; Supplier 2 Part Number: N/A; Supplier 3: thegioiic; Supplier 3 Part Number: N/A; Package / Case: 0603
footprint FER_0603
pins: 1, 2

## 03060360120125
designator FB?, comment 600 Ohms, 200 mA
Ferrite, 0603, 600 Ohms, 200 mA; Manufacturer: Wurth Elektronik; Manufacturer Part Number: 74279265; Tolerance: +/-25%; Maximum DC Current: 200 mA; Maximum DC Resistance: 450 mOhms; Test Frequency: 100 MHz; Packaging: Tape and Reel; Supplier 1 URL: https://www.mouser.com/ProductDetail/Wurth-Elektronik/74279265?qs=sGAEpiMZZMt1hubY80%2Fs8M60rIzA20dglmJIomIYNv0%3D&utm_source=mouser-refine-download&utm_medium=file&utm_campaign=74279265&utm_content=Wurth-Elektronik; Supplier 2 URL: N/A; Supplier 3 URL: N/A; Impedance: 600 Ohms; Value: 600 Ohms, 200 mA; ComponentLink1Description: Datasheet; ComponentLink1URL: https://www.we-online.com/catalog/datasheet/74279265.pdf; Mount: SMD/SMT; Operating Temperature Max: 105°C; Operating Temperature Min: -55°C; Supplier 1: Mouser; Supplier 1 Part Number: 710-74279265; Supplier 2: Digi-Key; Supplier 2 Part Number: N/A; Supplier 3: thegioiic; Supplier 3 Part Number: N/A; Package / Case: 0603
footprint FER_0603
pins: 1, 2

## 03060360150125
designator FB?, comment 600 Ohms, 500 mA
Ferrite, 0603, 600 Ohms, 500 mA; Manufacturer: Wurth Elektronik; Manufacturer Part Number: 742863160; Tolerance: +/-25%; Maximum DC Current: 500 mA; Maximum DC Resistance: 350 mOhms; Test Frequency: 100 MHz; Packaging: Tape and Reel; Supplier 1 URL: https://www.mouser.com/ProductDetail/Wurth-Elektronik/742863160?qs=sGAEpiMZZMt1hubY80%2Fs8BKXygOvoDpxRZv4yGDxy%252Bk%3D&utm_source=mouser-refine-download&utm_medium=file&utm_campaign=742863160&utm_content=Wurth-Elektronik; Supplier 2 URL: N/A; Supplier 3 URL: N/A; Impedance: 600 Ohms; Value: 600 Ohms, 500 mA; ComponentLink1Description: Datasheet; ComponentLink1URL: https://www.we-online.com/catalog/datasheet/742863160.pdf; Mount: SMD/SMT; Operating Temperature Max: 105°C; Operating Temperature Min: -55°C; Supplier 1: Mouser; Supplier 1 Part Number: 710-742863160; Supplier 2: Digi-Key; Supplier 2 Part Number: N/A; Supplier 3: thegioiic; Supplier 3 Part Number: N/A; Package / Case: 0603
footprint FER_0603
pins: 1, 2

## 03060375140125
designator FB?, comment 750 Ohms, 400 mA
Ferrite, 0603, 750 Ohms, 400 mA; Manufacturer: Wurth Elektronik; Manufacturer Part Number: 742792656; Tolerance: +/-25%; Maximum DC Current: 400 mA; Maximum DC Resistance: 350 mOhms; Test Frequency: 100 MHz; Packaging: Tape and Reel; Supplier 1 URL: https://www.mouser.com/ProductDetail/Wurth-Elektronik/742792656?qs=sGAEpiMZZMt1hubY80%2Fs8OCciRuv%2FFk6ZH13j8u0bwIQ0jeqrraPNQ%3D%3D&utm_source=mouser-refine-download&utm_medium=file&utm_campaign=742792656&utm_content=Wurth-Elektronik; Supplier 2 URL: N/A; Supplier 3 URL: N/A; Impedance: 750 Ohms; Value: 750 Ohms, 400 mA; ComponentLink1Description: Datasheet; ComponentLink1URL: https://www.we-online.com/catalog/datasheet/742792656.pdf; Mount: SMD/SMT; Operating Temperature Max: 105°C; Operating Temperature Min: -55°C; Supplier 1: Mouser; Supplier 1 Part Number: 710-742792656; Supplier 2: Digi-Key; Supplier 2 Part Number: N/A; Supplier 3: thegioiic; Supplier 3 Part Number: N/A; Package / Case: 0603
footprint FER_0603
pins: 1, 2

## 03060380020125
designator FB?, comment 80 Ohms, 200 mA
Ferrite, 0603, 80 Ohms, 200 mA; Manufacturer: Wurth Elektronik; Manufacturer Part Number: 74279261; Tolerance: +/-25%; Impedance: 80 Ohms; Maximum DC Current: 200 mA; Maximum DC Resistance: 300 mOhms; Test Frequency: 100 MHz; Packaging: Tape and Reel; Supplier 1 URL: https://www.mouser.com/ProductDetail/Wurth-Elektronik/74279261?qs=sGAEpiMZZMt1hubY80%2Fs8M60rIzA20dgRQlCHzTmBjs%3D&utm_source=mouser-refine-download&utm_medium=file&utm_campaign=74279261&utm_content=Wurth-Elektronik; Supplier 2 URL: N/A; Supplier 3 URL: N/A; Value: 80 Ohms, 200 mA; ComponentLink1Description: Datasheet; ComponentLink1URL: https://www.we-online.com/catalog/datasheet/74279261.pdf; Mount: SMD/SMT; Operating Temperature Max: 105°C; Operating Temperature Min: -55°C; Supplier 1: Mouser; Supplier 1 Part Number: 710-74279261; Supplier 2: Digi-Key; Supplier 2 Part Number: N/A; Supplier 3: thegioiic; Supplier 3 Part Number: N/A; Package / Case: 0603
footprint FER_0603
pins: 1, 2


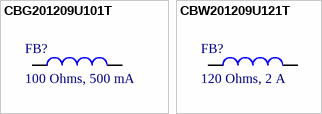
[diagram p2: symbols CBG201209U101T to CBW201209U121T]

## CBG201209U101T
designator FB?, comment 100 Ohms, 500 mA
Ferrite, 0805, 100 Ohms, 500 mA; Manufacturer: FH (Guangdong Fenghua Advanced Tech); Manufacturer Part Number: CBG201209U101T; Tolerance: +/-25%; Maximum DC Current: 500 mA; Maximum DC Resistance: 180 mOhms; Test Frequency: 100 MHz; Packaging: Tape and Reel; Supplier 1 URL: N/A; Supplier 2 URL: N/A; Supplier 3 URL: https://www.thegioiic.com/cbg201209u101t-ferrite-beads-100-ohm-0805; Impedance: 100 Ohms; Value: 100 Ohms, 500 mA; LCSC Part #: C74480; ComponentLink1Description: Datasheet; ComponentLink1URL: https://datasheet.lcsc.com/lcsc/2304140030_FH--Guangdong-Fenghua-Advanced-Tech-CBG201209U101T_C74480.pdf; Mount: SMD/SMT; Operating Temperature Max: 105°C; Operating Temperature Min: -55°C; Supplier 1: Mouser; Supplier 1 Part Number: N/A; Supplier 2: Digi-Key; Supplier 2 Part Number: N/A; Supplier 3: thegioiic; Supplier 3 Part Number: CBG201209U101T; Package / Case: 0805
footprint FER_0805
pins: 1, 2

## CBW201209U121T
designator FB?, comment 120 Ohms, 2 A
Ferrite, 0805, 100 Ohms, 500 mA; Manufacturer: FH (Guangdong Fenghua Advanced Tech); Manufacturer Part Number: CBW201209U121T; Tolerance: +/-25%; Maximum DC Current: 2 A; Maximum DC Resistance: 100 mOhms; Test Frequency: 100 MHz; Packaging: Tape and Reel; Supplier 1 URL: N/A; Supplier 2 URL: N/A; Supplier 3 URL: https://www.thegioiic.com/cbw201209u121t-ferrite-beads-2a-120-ohm-0805; Impedance: 120 Ohms; Value: 120 Ohms, 2 A; LCSC Part #: C139186; ComponentLink1Description: Datasheet; ComponentLink1URL: https://datasheet.lcsc.com/lcsc/2304140030_FH--Guangdong-Fenghua-Advanced-Tech-CBW201209U121T_C139186.pdf; Mount: SMD/SMT; Operating Temperature Max: 105°C; Operating Temperature Min: -55°C; Supplier 1: Mouser; Supplier 1 Part Number: N/A; Supplier 2: Digi-Key; Supplier 2 Part Number: N/A; Supplier 3: thegioiic; Supplier 3 Part Number: CBW201209U121T; Package / Case: 0805
footprint FER_0805
pins: 1, 2